# EAGLE library part VL53L0X (library ZUBA_MINISUMO)
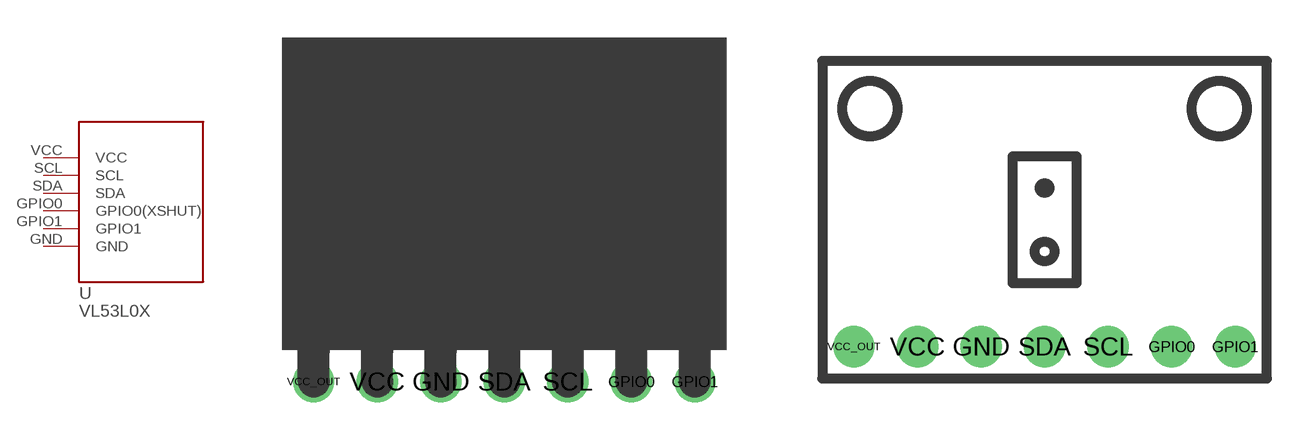
[diagram p4: symbol with the pads of VL53L0X; footprints VL53L0X, VL53L0X_2]

Designator prefix -

## VL53L0XPOLOLU_2  [VL53L0X]
GND  GND
GPIO0  GPIO0(XSHUT)
GPIO1  GPIO1
SCL  SCL
SDA  SDA
VCC  VCC

## VL53L0XPOLOLU_1  [VL53L0X_2]
Pads as for VL53L0X

## VL53L0XCJVL53L0XV2  [VL53L0X_3]
Pads as for VL53L0X

## VL53L0XCJVL53L0XV2_2  [VL53L0X_4]
Pads as for VL53L0X

## Footprint VL53L0X (pad centres in mm)
drill 1.1: GND -2.54,0; GPIO0 5.08,0; GPIO1 7.62,0; SCL 2.54,0; SDA 0,0; VCC -5.08,0; VCC_OUT -7.62,0

## Footprint VL53L0X_2 (pad centres in mm)
drill 1.1: GND -2.54,0; GPIO0 5.08,0; GPIO1 7.62,0; SCL 2.54,0; SDA 0,0; VCC -5.08,0; VCC_OUT -7.62,0

## Footprint VL53L0X_3 (pad centres in mm)
drill 1.1: GND -3.81,3.81; GPIO0 6.35,3.81; GPIO1 3.81,3.81; SCL -1.27,3.81; SDA 1.27,3.81; VCC -6.35,3.81
hole 3.2 at -9.85,7.62
hole 3.2 at 9.85,7.62

## Footprint VL53L0X_4 (pad centres in mm)
drill 1.1: GND -3.81,0; GPIO0 6.35,0; GPIO1 3.81,0; SCL -1.27,0; SDA 1.27,0; VCC -6.35,0